# Altium schematic symbol library tutorialLibrary.SchLib: 5 symbols
Pins are listed as number, name and electrical type; pins without a type are passive.

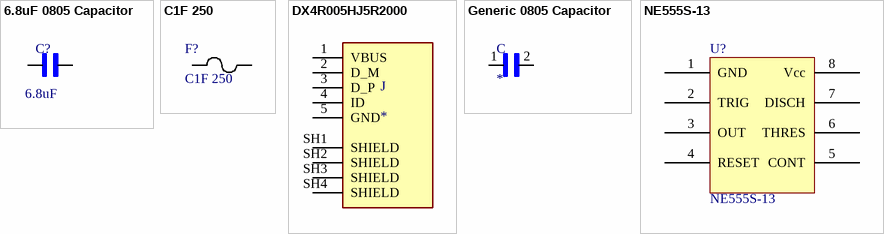
[diagram p0: symbols 6.8uF 0805 Capacitor to NE555S-13]

## 6.8uF 0805 Capacitor
designator C?  value 6.8uF  (hidden comment: *)
CAP CER 6.8UF 10V X7S 0805; MF: TDK Corporation; MP: CGA4J3X7S1A685K125AB; Package: 0805; Supplier 1: Digi-Key; Supplier Part Number 1: 445-16116-1-ND
footprint Genetic 0805 Capacitor
pins: 1, 2

## C1F 250
designator F?
No Description Available; Mfr_Name: Belfuse; Type: DEV; Copyright: Copyright (C) 2022 Ultra Librarian. All rights reserved.; Manufacturer_Part_Number: C1F 250; Digi-Key_Part_Number_1: 507-1874-1-ND; Digi-Key_Part_Number_2: 507-1874-2-ND; Digi-Key_Part_Number_3: 507-1874-6-ND; RefDes: RefDes
footprint C1_BEL
pins: 1, 2

## DX4R005HJ5R2000
designator J
USB - micro B USB 2.0 Receptacle Connector 5 Position Surface Mount, Right Angle; MF: JAE Electronics; MP: DX4R005HJ5R2000; Value: *; Price: None; Package: None; SnapEDA_Link: https://www.snapeda.com/parts/DX4R005HJ5R2000/JAE%20Electronics/view-part/554854/?ref=snap; Availability: Unavailable
footprint JAE_DX4R005HJ5R2000
pins: 1 VBUS, 2 D_M, 3 D_P, 4 ID, 5 GND, SH1 SHIELD, SH2 SHIELD, SH3 SHIELD, SH4 SHIELD

## Generic 0805 Capacitor
designator C
MF: AVX; MP: 0805YC103J4T2A; Package: 2012 AVX; Availability: Unavailable; Value: *; SnapEDA_Link: https://www.snapeda.com/parts/0805YC103J4T2A/AVX/view-part/606803/?ref=snap; Price: None
footprint Genetic 0805 Capacitor
pins: 1, 2

## NE555S-13
designator U?
IC OSC SINGLE TIMER 500KHZ 8SO; Supplier 1: Digi-Key; Supplier Part Number 1: NE555S-13DICT-ND
footprint NE555S-13
pins: 1 GND, 2 TRIG, 3 OUT, 4 RESET, 5 CONT, 6 THRES, 7 DISCH, 8 Vcc